# Altium integrated library 1554-MM.IntLib: 57 symbols
Pins are listed as number, name and electrical type; pins without a type are passive.

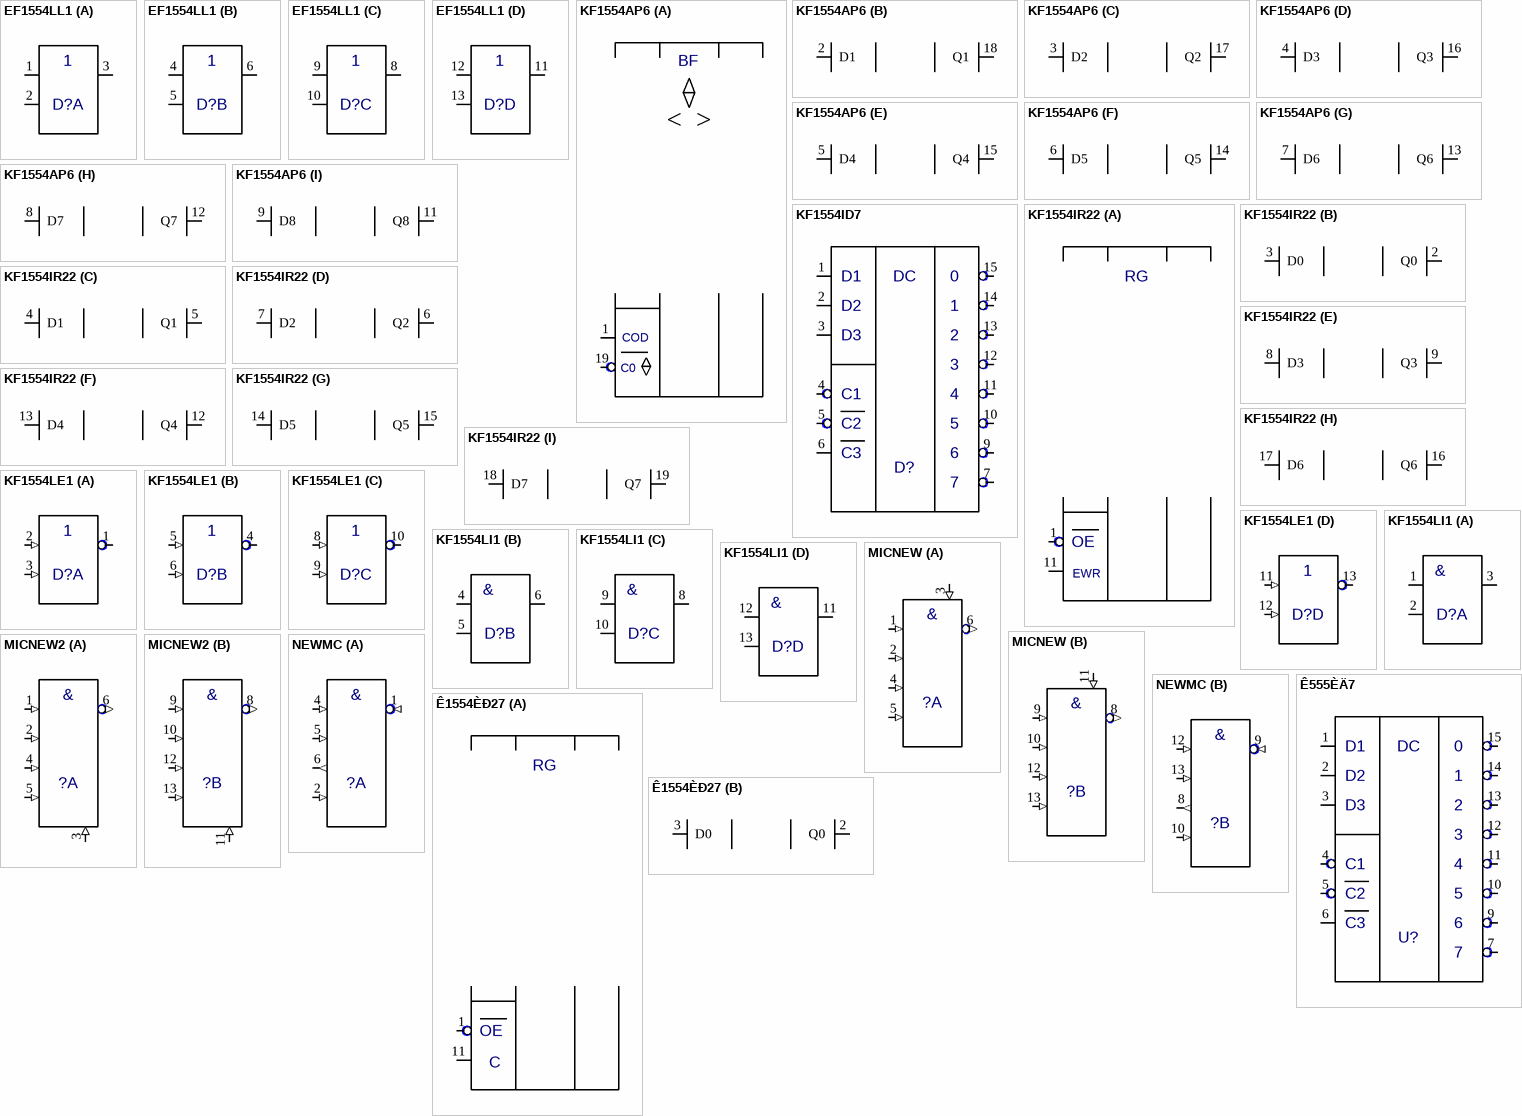
[diagram p0: symbols EF1554LL1 to Ê1554ÈÐ27]

## EF1554LL1
designator D?  (value not drawn)
Value: *
footprint SO14
pins on every part: 7 GND (power) hidden, 14 VCC (power) hidden
part A pins: 1 IN0, 2 IN1, 3 OUT
part B pins: 4 IN0, 5 IN1, 6 OUT
part C pins: 8 OUT, 9 IN0, 10 IN1
part D pins: 11 OUT, 12 IN0, 13 IN1

## KF1554AP6
designator D?  (value not drawn)
Value: *
footprint SOJ20
pins on every part: 10 GND (power) hidden, 20 VCC (power) hidden
part A pins: 1 DT/A0, 19 CS
part B pins: 2 D1, 18 Q1
part C pins: 3 D2, 17 Q2
part D pins: 4 D3, 16 Q3
part E pins: 5 D4, 15 Q4
part F pins: 6 D5, 14 Q5
part G pins: 7 D6, 13 Q6
part H pins: 8 D7, 12 Q7
part I pins: 9 D8, 11 Q8
part A text: BF; COD; C0

## KF1554ID7
designator D?  (value not drawn)
Value: *
footprint SO16
pins: 1 D0, 2 D1, 3 D2, 4 E1, 5 E2, 6 E3, 7 Q7, 8 GND (power) hidden, 9 Q6, 10 Q5, 11 Q4, 12 Q3, 13 Q2, 14 Q1, 15 Q0, 16 VCC (power) hidden
text: DC; 0; D3; C1; C2; C3

## KF1554IR22
designator D?  (value not drawn)
Value: *
footprint SOJ20
pins on every part: 10 GND (power) hidden, 20 VCC (power) hidden
part A pins: 1 OE, 11 LE
part B pins: 2 Q0, 3 D0
part C pins: 4 D1, 5 Q1
part D pins: 6 Q2, 7 D2
part E pins: 8 D3, 9 Q3
part F pins: 12 Q4, 13 D4
part G pins: 14 D5, 15 Q5
part H pins: 16 Q6, 17 D6
part I pins: 18 D7, 19 Q7
part A text: RG; EWR

## KF1554LE1
designator D?  (value not drawn)
Value: *
footprint SO14
pins on every part: 7 GND (power) hidden, 14 VCC (power) hidden
part A pins: 1 OUT, 2 IN0 (in), 3 IN1 (in)
part B pins: 4 OUT, 5 IN0 (in), 6 IN1 (in)
part C pins: 8 IN0 (in), 9 IN1 (in), 10 OUT
part D pins: 11 IN0 (in), 12 IN1 (in), 13 OUT

## KF1554LI1
designator D?  (value not drawn)
Value: *
footprint SO14
pins on every part: 7 GND (power) hidden, 14 VCC (power) hidden
part A pins: 1 IN0, 2 IN1, 3 OUT
part B pins: 4 IN0, 5 IN1, 6 OUT
part C pins: 8 OUT, 9 IN0, 10 IN1
part D pins: 11 OUT, 12 IN0, 13 IN1
part A text: &
part B text: &
part C text: &
part D text: &

## MICNEW
designator ?  (value not drawn)
Value: *
footprint DIP14
pins on every part: 7 GND (power) hidden, 14 VCC (power) hidden
part A pins: 1 IN0 (in), 2 IN1 (in), 3 IN6 (in), 4 IN3 (in), 5 IN4 (in), 6 OUT (out)
part B pins: 8 OUT (out), 9 IN0 (in), 10 IN1 (in), 11 IN6 (in), 12 IN3 (in), 13 IN4 (in)
part A text: &
part B text: &

## MICNEW2
designator ?  (value not drawn)
Value: *
footprint DIP14
pins on every part: 7 GND (power) hidden, 14 VCC (power) hidden
part A pins: 1 IN0 (in), 2 IN1 (in), 3 IN6 (in), 4 IN3 (in), 5 IN4 (in), 6 OUT (out)
part B pins: 8 OUT (out), 9 IN0 (in), 10 IN1 (in), 11 IN6 (in), 12 IN3 (in), 13 IN4 (in)
part A text: &
part B text: &

## NEWMC
designator ?  (value not drawn)
Value: *
footprint DIP14
pins on every part: 3 hidden, 7 GND (power) hidden, 11 hidden, 14 Vcc (power) hidden
part A pins: 1 IN0 (in), 2 IN1 (in), 4 IN3 (in), 5 IN4 (in), 6 OUT (out)
part B pins: 8 OUT (out), 9 IN0 (in), 10 IN1 (in), 12 IN3 (in), 13 IN4 (in)
part A text: &
part B text: &

## Ê555ÈÄ7
designator U?  (value not drawn)
Value: *
pins: 1 D0, 2 D1, 3 D2, 4 E1, 5 E2, 6 E3, 7 Q7, 9 Q6, 10 Q5, 11 Q4, 12 Q3, 13 Q2, 14 Q1, 15 Q0
text: DC; 0; D3; C1; C2; C3

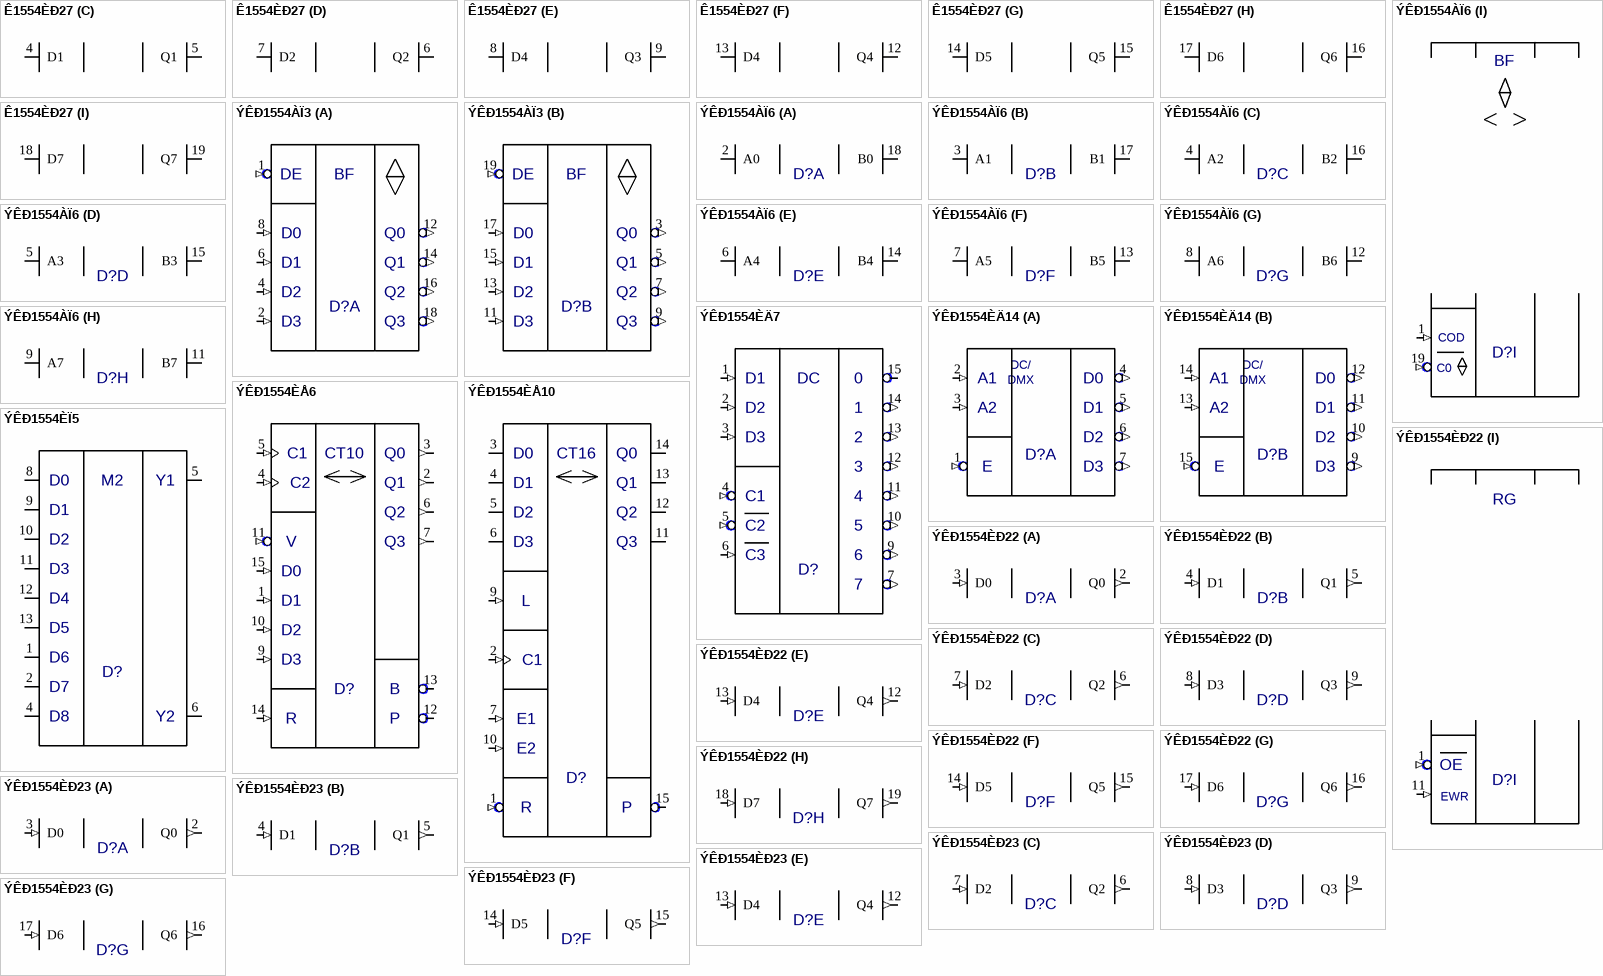
[diagram p1: symbols Ê1554ÈÐ27 to ÝÊÐ1554ÈÐ23]

## Ê1554ÈÐ27
designator D?  (value not drawn)
Value: *
footprint DIP20
pins on every part: 10 GND (power) hidden, 20 VCC (power) hidden
part A pins: 1 OE, 11 LE
part B pins: 2 Q0, 3 D0
part C pins: 4 D1, 5 Q1
part D pins: 6 Q2, 7 D2
part E pins: 8 D4, 9 Q3
part F pins: 12 Q4, 13 D4
part G pins: 14 D5, 15 Q5
part H pins: 16 Q6, 17 D6
part I pins: 18 D7, 19 Q7
part A text: RG; C

## ÝÊÐ1554ÀÏ3
designator D?  (value not drawn)
Value: *
footprint DIP20
pins on every part: 10 GND (power) hidden, 20 VCC (power) hidden
part A pins: 1 DE0 (in), 2 D3 (in), 4 D2 (in), 6 D1 (in), 8 D0 (in), 12 Q0 (out), 14 Q1 (out), 16 Q2 (out), 18 Q3 (out)
part B pins: 3 Q0 (out), 5 Q1 (out), 7 Q2 (out), 9 Q3 (out), 11 D3 (in), 13 D2 (in), 15 D1 (in), 17 D0 (in), 19 DE0 (in)
part A text: DE; BF
part B text: DE; BF

## ÝÊÐ1554ÀÏ6
designator D?  (value not drawn)
Value: *
footprint DIP20
pins on every part: 10 GND (power) hidden, 20 VCC (power) hidden
part A pins: 2 A0 (io), 18 B0 (io)
part B pins: 3 A1 (io), 17 B1 (io)
part C pins: 4 A2 (io), 16 B2 (io)
part D pins: 5 A3 (io), 15 B3 (io)
part E pins: 6 A4 (io), 14 B4 (io)
part F pins: 7 A5 (io), 13 B5 (io)
part G pins: 8 A6 (io), 12 B6 (io)
part H pins: 9 A7 (io), 11 B7 (io)
part I pins: 1 CDD (in), 19 CD0 (in)
part I text: BF; COD; C0

## ÝÊÐ1554ÈÄ7
designator D?  (value not drawn)
Value: *
footprint DIP16
pins: 1 (in), 2 (in), 3 (in), 4 E3 (in), 5 E2 (in), 6 E1 (in), 7 D0 (out), 8 GND (power) hidden, 9 D2 (out), 10 D3 (out), 11 D4 (out), 12 D5 (out), 13 D6 (out), 14 D7 (out), 15 D1 (power), 16 VCC (power) hidden
text: DC; 0; C1; C2; C3

## ÝÊÐ1554ÈÄ14
designator D?  (value not drawn)
Value: *
footprint DIP16
pins on every part: 8 GND (power) hidden, 16 VCC (power) hidden
part A pins: 1 E0 (in), 2 D1 (in), 3 D2 (in), 4 DO0 (out), 5 DO1 (out), 6 DO2 (out), 7 DO3 (out)
part B pins: 9 DO3 (out), 10 DO2 (out), 11 DO1 (out), 12 DO0 (out), 13 D2 (in), 14 D1 (in), 15 E0 (in)
part A text: DC/; A1; DMX; D0; A2; E; D3
part B text: DC/; A1; DMX; D0; A2; E; D3

## ÝÊÐ1554ÈÅ6
designator D?  (value not drawn)
Value: *
footprint DIP16
pins: 1 D1 (in), 2 Q1 (out), 3 Q0 (out), 4 C2 (in), 5 C1 (in), 6 Q2 (out), 7 Q3 (out), 8 GND (power) hidden, 9 D3 (in), 10 D2 (in), 11 V0 (in), 12 P (io), 13 B (io), 14 R0 (in), 15 D0 (in), 16 VCC (power) hidden
text: CT10; V; R

## ÝÊÐ1554ÈÅ10
designator D?  (value not drawn)
Value: *
footprint DIP16
pins: 1 R (in), 2 C1 (in), 3 D0 (io), 4 D1 (io), 5 D2 (io), 6 D3 (io), 7 E1 (in), 8 GND (power) hidden, 9 L (in), 10 E2 (in), 11 Q3 (io), 12 Q2 (io), 13 Q1 (io), 14 Q0 (io), 15 P (io), 16 VCC (power) hidden
text: CT16

## ÝÊÐ1554ÈÏ5
designator D?  (value not drawn)
Value: *
footprint DIP14
pins: 1 D6 (io), 2 D7 (io), 3 hidden, 4 D8 (io), 5 Y1 (io), 6 Y2 (io), 7 GND (power) hidden, 8 D0 (io), 9 D1 (io), 10 D2 (io), 11 D3 (io), 12 D4 (io), 13 D5 (io), 14 VCC (power) hidden
text: M2

## ÝÊÐ1554ÈÐ22
designator D?  (value not drawn)
Value: *
footprint DIP20
pins on every part: 10 GND (power) hidden, 20 VCC (power) hidden
part A pins: 2 Q0 (out), 3 D0 (in)
part B pins: 4 D1 (in), 5 Q1 (out)
part C pins: 6 Q2 (out), 7 D2 (in)
part D pins: 8 D3 (in), 9 Q3 (out)
part E pins: 12 Q4 (out), 13 D4 (in)
part F pins: 14 D5 (in), 15 Q5 (out)
part G pins: 16 Q6 (out), 17 D6 (in)
part H pins: 18 D7 (in), 19 Q7 (out)
part I pins: 1 OE (in), 11 EWR (in)
part I text: RG

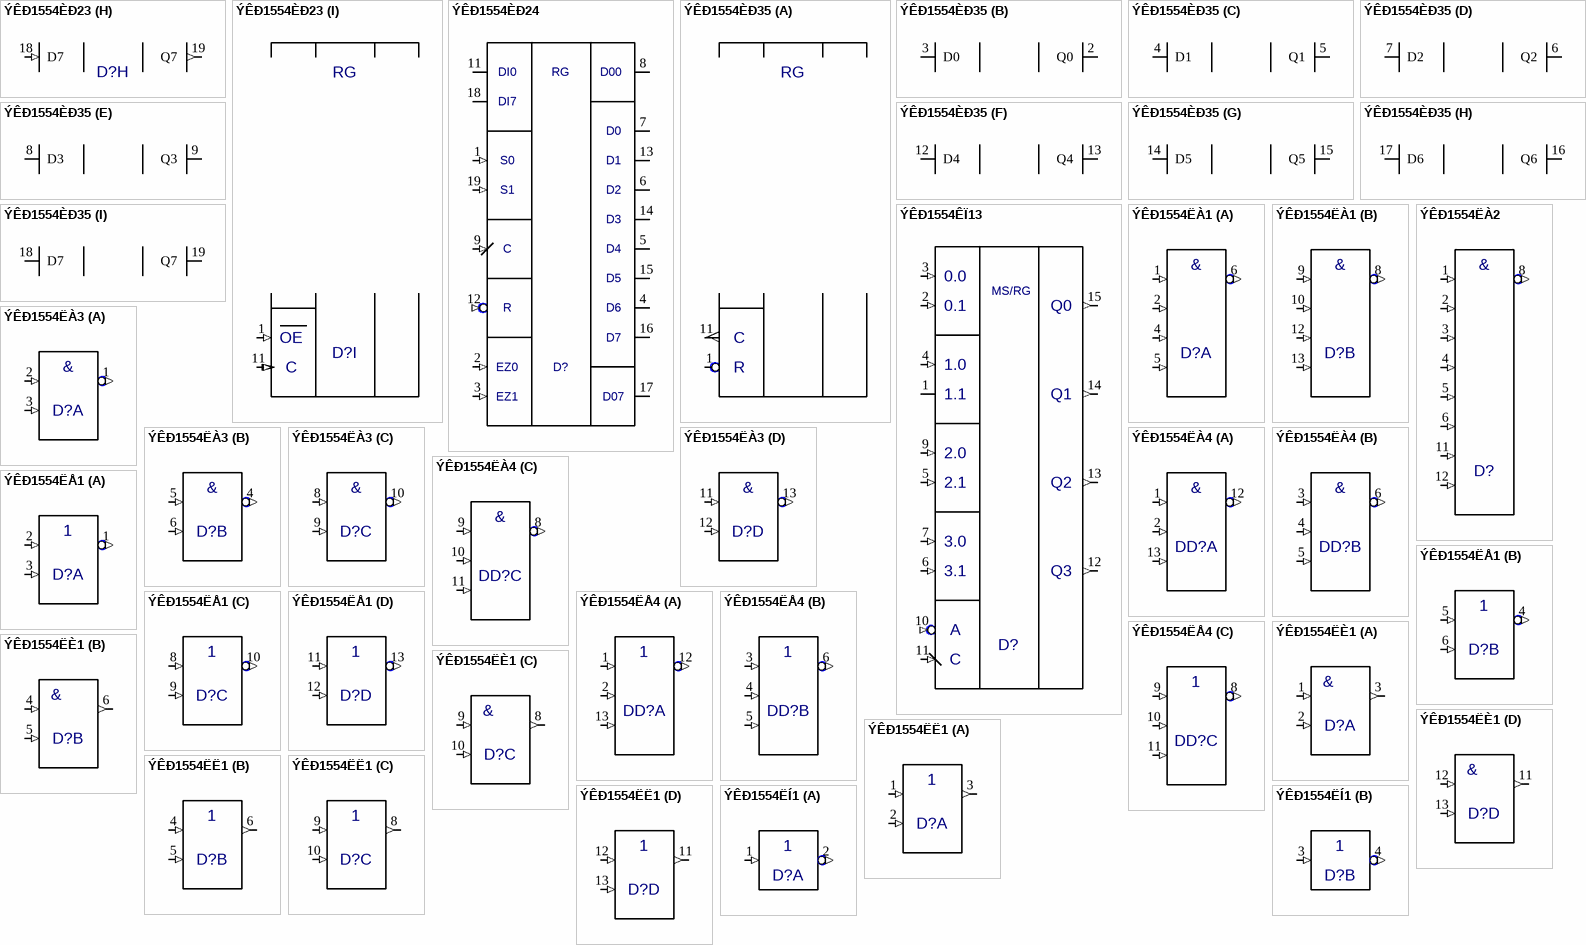
[diagram p2: symbols ÝÊÐ1554ÈÐ23 to ÝÊÐ1554ËÍ1]

## ÝÊÐ1554ÈÐ23
designator D?  (value not drawn)
Value: *
footprint DIP20
pins on every part: 10 GND (power) hidden, 20 VCC (power) hidden
part A pins: 2 Q0 (out), 3 D0 (in)
part B pins: 4 D1 (in), 5 Q1 (out)
part C pins: 6 Q2 (out), 7 D2 (in)
part D pins: 8 D3 (in), 9 Q3 (out)
part E pins: 12 Q4 (out), 13 D4 (in)
part F pins: 14 D5 (in), 15 Q5 (out)
part G pins: 16 Q6 (out), 17 D6 (in)
part H pins: 18 D7 (in), 19 Q7 (out)
part I pins: 1 OE (in), 11 LE (in)
part I text: RG; C

## ÝÊÐ1554ÈÐ24
designator D?  (value not drawn)
Value: *
footprint DIP20
pins: 1 S0 (in), 2 EZ0 (in), 3 EZ1 (in), 4 D6 (io), 5 D4 (io), 6 D2 (io), 7 D0 (io), 8 D0 (io), 9 C0 (in), 10 GND (power) hidden, 11 DI0 (io), 12 R (in), 13 D1 (io), 14 D3 (io), 15 D5 (io), 16 D7 (io), 17 D07 (io), 18 DI1 (io), 19 S1 (in), 20 VCC (power) hidden
text: RG; D00; DI7; C

## ÝÊÐ1554ÈÐ35
designator D?  (value not drawn)
Value: *
footprint DIP20
pins on every part: 10 GND (power) hidden, 20 VCC (power) hidden
part A pins: 1 R, 11 C
part B pins: 2 Q0, 3 D0
part C pins: 4 D1, 5 Q1
part D pins: 6 Q2, 7 D2
part E pins: 8 D3, 9 Q3
part F pins: 12 D4, 13 Q4
part G pins: 14 D5, 15 Q5
part H pins: 16 Q6, 17 D6
part I pins: 18 D7, 19 Q7
part A text: RG

## ÝÊÐ1554ÊÏ13
designator D?  (value not drawn)
Value: *
footprint DIP16
pins: 1 1.1, 2 0.1 (in), 3 0.0 (in), 4 1.0 (in), 5 2.1 (in), 6 3.1 (in), 7 3.0 (in), 8 GND (power) hidden, 9 2.0 (in), 10 A (in), 11 C (in), 12 Q3 (out), 13 Q2 (out), 14 Q1 (out), 15 Q0 (out), 16 VCC (power) hidden
text: MS/RG

## ÝÊÐ1554ËÀ1
designator D?  (value not drawn)
Value: *
footprint DIP14
pins on every part: 3 hidden, 7 GND (power) hidden, 11 hidden, 14 VCC (power) hidden
part A pins: 1 IN0 (in), 2 IN1 (in), 4 IN3 (in), 5 IN4 (in), 6 OUT (out)
part B pins: 8 OUT (out), 9 IN0 (in), 10 IN1 (in), 12 IN3 (in), 13 IN4 (in)
part A text: &
part B text: &

## ÝÊÐ1554ËÀ2
designator D?  (value not drawn)
Value: *
footprint DIP14
pins: 1 IN0 (in), 2 IN1 (in), 3 IN3 (in), 4 IN4 (in), 5 IN5 (in), 6 IN6 (in), 7 GND (power) hidden, 8 OUT (out), 9 hidden, 10 hidden, 11 IN7 (in), 12 IN8 (in), 13 hidden, 14 VCC (power) hidden
text: &

## ÝÊÐ1554ËÀ3
designator D?  (value not drawn)
Value: *
footprint DIP14
pins on every part: 7 GND (power) hidden, 14 VCC (power) hidden
part A pins: 1 OUT (out), 2 IN0 (in), 3 IN1 (in)
part B pins: 4 OUT (out), 5 IN0 (in), 6 IN1 (in)
part C pins: 8 IN0 (in), 9 IN1 (in), 10 OUT (out)
part D pins: 11 IN0 (in), 12 IN1 (in), 13 OUT (out)
part A text: &
part B text: &
part C text: &
part D text: &

## ÝÊÐ1554ËÀ4
designator DD?  (value not drawn)
Value: *
footprint DIP14
pins on every part: 7 GND (power) hidden, 14 VCC (power) hidden
part A pins: 1 IN0 (in), 2 IN1 (in), 12 OUT (out), 13 IN3 (in)
part B pins: 3 IN0 (in), 4 IN1 (in), 5 IN3 (in), 6 OUT (out)
part C pins: 8 OUT (out), 9 IN0 (in), 10 IN1 (in), 11 IN3 (in)
part A text: &
part B text: &
part C text: &

## ÝÊÐ1554ËÅ1
designator D?  (value not drawn)
Value: *
footprint DIP14
pins on every part: 7 GND (power) hidden, 14 VCC (power) hidden
part A pins: 1 OUT (out), 2 IN0 (in), 3 IN1 (in)
part B pins: 4 OUT (out), 5 IN0 (in), 6 IN1 (in)
part C pins: 8 IN0 (in), 9 IN1 (in), 10 OUT (out)
part D pins: 11 IN0 (in), 12 IN1 (in), 13 OUT (out)

## ÝÊÐ1554ËÅ4
designator DD?  (value not drawn)
Value: *
footprint DIP14
pins on every part: 7 GND (power) hidden, 14 VCC (power) hidden
part A pins: 1 IN0 (in), 2 IN1 (in), 12 OUT (out), 13 IN3 (in)
part B pins: 3 IN0 (in), 4 IN1 (in), 5 IN3 (in), 6 OUT (out)
part C pins: 8 OUT (out), 9 IN0 (in), 10 IN1 (in), 11 IN3 (in)

## ÝÊÐ1554ËÈ1
designator D?  (value not drawn)
Value: *
footprint DIP14
pins on every part: 7 GND (power) hidden, 14 VCC (power) hidden
part A pins: 1 IN0 (in), 2 IN1 (in), 3 OUT (out)
part B pins: 4 IN0 (in), 5 IN1 (in), 6 OUT (out)
part C pins: 8 OUT (out), 9 IN0 (in), 10 IN1 (in)
part D pins: 11 OUT (out), 12 IN0 (in), 13 IN1 (in)
part A text: &
part B text: &
part C text: &
part D text: &

## ÝÊÐ1554ËË1
designator D?  (value not drawn)
Value: *
footprint DIP14
pins on every part: 7 GND (power) hidden, 14 VCC (power) hidden
part A pins: 1 IN0 (in), 2 IN1 (in), 3 OUT (out)
part B pins: 4 IN0 (in), 5 IN1 (in), 6 OUT (out)
part C pins: 8 OUT (out), 9 IN0 (in), 10 IN1 (in)
part D pins: 11 OUT (out), 12 IN0 (in), 13 IN1 (in)

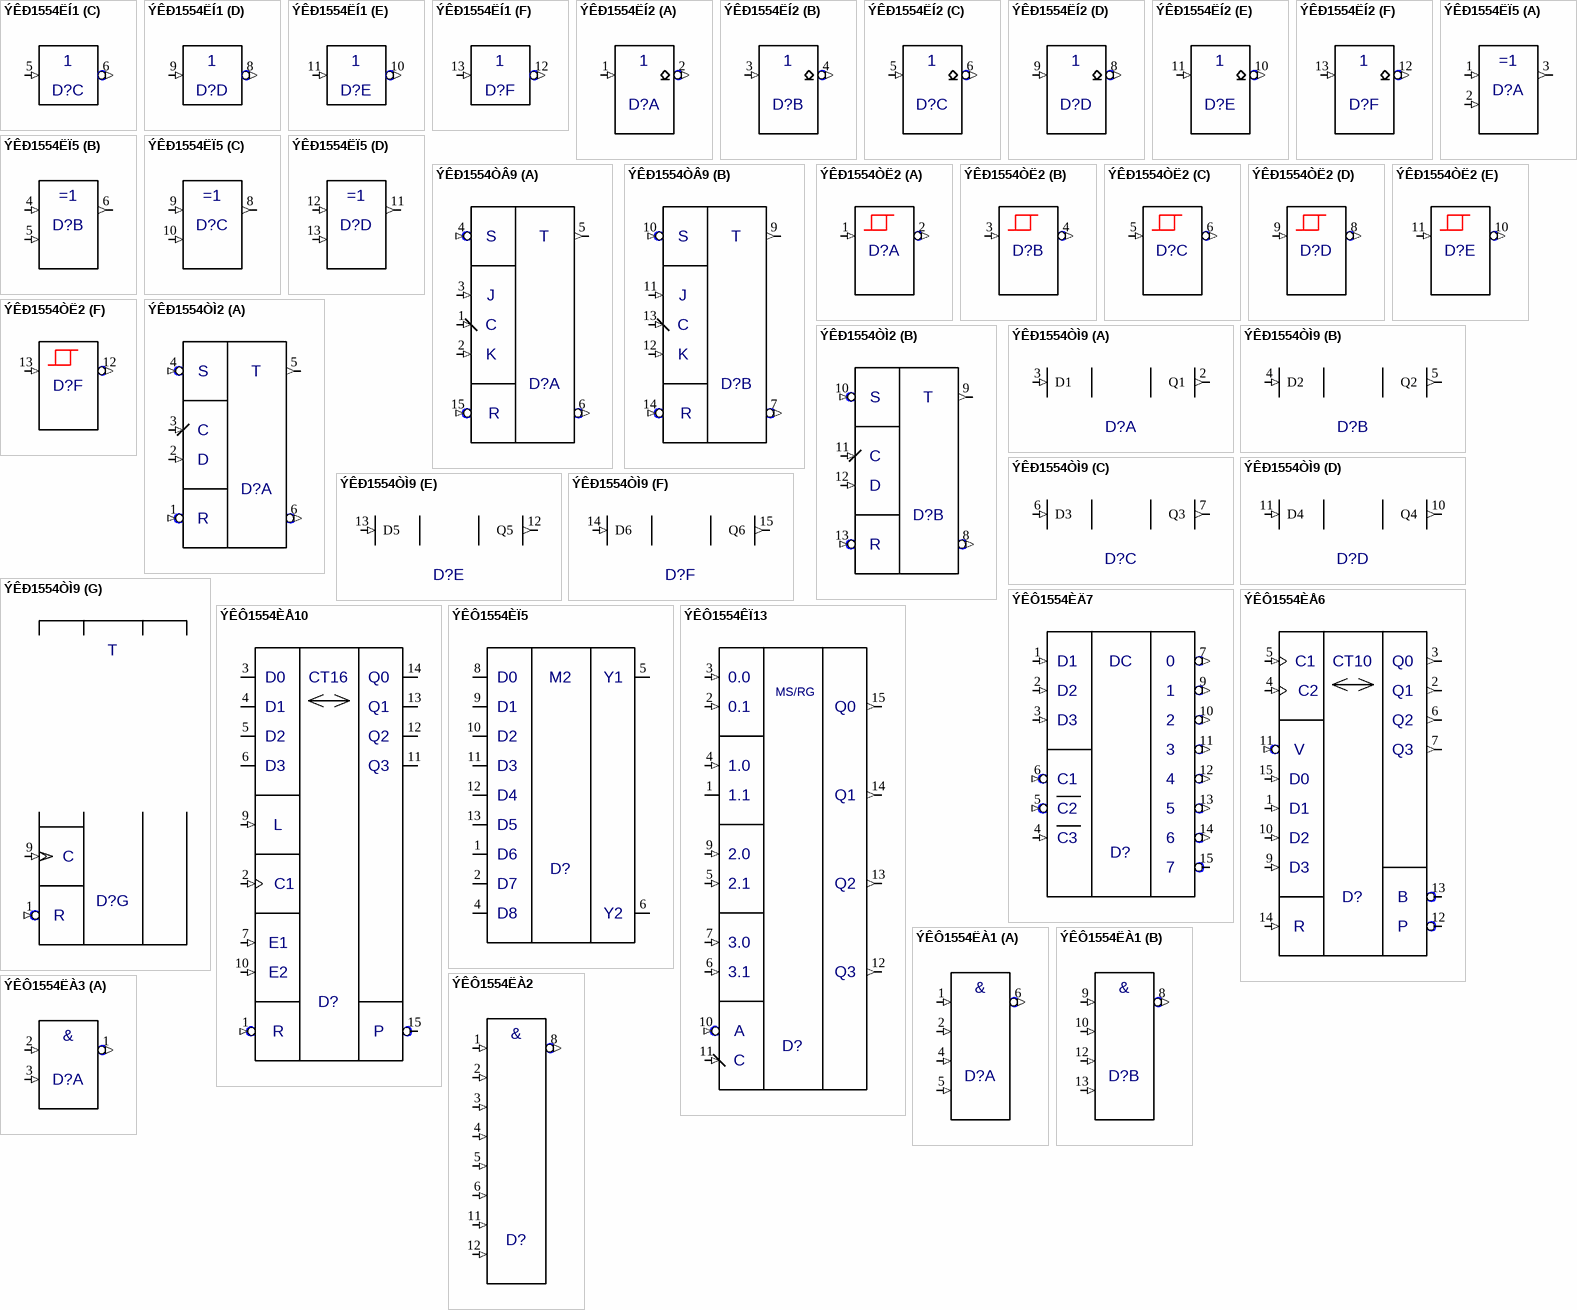
[diagram p3: symbols ÝÊÐ1554ËÍ1 to ÝÊÔ1554ËÀ3]

## ÝÊÐ1554ËÍ1
designator D?  (value not drawn)
Value: *
footprint DIP14
pins on every part: 7 GND (power) hidden, 14 VCC (power) hidden
part A pins: 1 IN0 (in), 2 OUT (out)
part B pins: 3 IN0 (in), 4 OUT (out)
part C pins: 5 IN0 (in), 6 OUT (out)
part D pins: 8 OUT (out), 9 IN0 (in)
part E pins: 10 OUT (out), 11 IN0 (in)
part F pins: 12 OUT (out), 13 IN0 (in)

## ÝÊÐ1554ËÍ2
designator D?  (value not drawn)
Value: *
footprint DIP14
pins on every part: 7 GND (power) hidden, 14 VCC (power) hidden
part A pins: 1 IN0 (in), 2 OUT (out)
part B pins: 3 IN0 (in), 4 OUT (out)
part C pins: 5 IN0 (in), 6 OUT (out)
part D pins: 8 OUT (out), 9 IN0 (in)
part E pins: 10 OUT (out), 11 IN0 (in)
part F pins: 12 OUT (out), 13 IN0 (in)

## ÝÊÐ1554ËÏ5
designator D?  (value not drawn)
Value: *
footprint DIP14
pins on every part: 7 GND (power) hidden, 14 VCC (power) hidden
part A pins: 1 IN0 (in), 2 IN1 (in), 3 OUT (out)
part B pins: 4 IN0 (in), 5 IN1 (in), 6 OUT (out)
part C pins: 8 OUT (out), 9 IN0 (in), 10 IN1 (in)
part D pins: 11 OUT (out), 12 IN0 (in), 13 IN1 (in)

## ÝÊÐ1554ÒÂ9
designator D?  (value not drawn)
Value: *
footprint DIP16
pins on every part: 8 GND (power) hidden, 16 VCC (power) hidden
part A pins: 1 A1 (in), 2 A2 (in), 3 A0 (in), 4 S (in), 5 Q0 (out), 6 Q1 (out), 15 R0 (in)
part B pins: 7 Q1 (out), 9 Q0 (out), 10 S (in), 11 A0 (in), 12 A2 (in), 13 A1 (in), 14 R0 (in)
part A text: T; J; C; K; R
part B text: T; J; C; K; R

## ÝÊÐ1554ÒË2
designator D?  (value not drawn)
Value: *
footprint DIP14
pins on every part: 7 GND (power) hidden, 14 VCC (power) hidden
part A pins: 1 IN0 (in), 2 OUT (out)
part B pins: 3 IN0 (in), 4 OUT (out)
part C pins: 5 IN0 (in), 6 OUT (out)
part D pins: 8 OUT (out), 9 IN0 (in)
part E pins: 10 OUT (out), 11 IN0 (in)
part F pins: 12 OUT (out), 13 IN0 (in)

## ÝÊÐ1554ÒÌ2
designator D?  (value not drawn)
Value: *
footprint DIP14
pins on every part: 7 GND (power) hidden, 14 VCC (power) hidden
part A pins: 1 R0 (in), 2 A1 (in), 3 A0 (in), 4 S (in), 5 Q0 (out), 6 Q1 (out)
part B pins: 8 Q1 (out), 9 Q0 (out), 10 S (in), 11 A0 (in), 12 A1 (in), 13 R0 (in)
part A text: T; C; D; R
part B text: T; C; D; R

## ÝÊÐ1554ÒÌ9
designator D?  (value not drawn)
Value: *
footprint DIP16
pins on every part: 8 GND (power) hidden, 16 VCC (power) hidden
part A pins: 2 Q1 (out), 3 D1 (in)
part B pins: 4 D2 (in), 5 Q2 (out)
part C pins: 6 D3 (in), 7 Q3 (out)
part D pins: 10 Q4 (out), 11 D4 (in)
part E pins: 12 Q5 (out), 13 D5 (in)
part F pins: 14 D6 (in), 15 Q6 (out)
part G pins: 1 R (in), 9 C (in)
part G text: T

## ÝÊÔ1554ÈÄ7
designator D?  (value not drawn)
Value: *
footprint 4307-16A
pins: 1 (in), 2 (in), 3 (in), 4 E1 (in), 5 E2 (in), 6 E3 (in), 7 D7 (out), 8 GND (power) hidden, 9 D6 (out), 10 D5 (out), 11 D4 (out), 12 D3 (out), 13 D2 (out), 14 D1 (out), 15 D0 (power), 16 VCC (out) hidden
text: DC; 0; C1; C2; C3

## ÝÊÔ1554ÈÅ6
designator D?  (value not drawn)
Value: *
footprint 4307-16A
pins: 1 D1 (in), 2 Q1 (out), 3 Q0 (out), 4 C2 (in), 5 C1 (in), 6 Q2 (out), 7 Q3 (out), 8 GND (power) hidden, 9 D3 (in), 10 D2 (in), 11 V0 (in), 12 P (io), 13 B (io), 14 R0 (in), 15 D0 (in), 16 VCC (power) hidden
text: CT10; V; R

## ÝÊÔ1554ÈÅ10
designator D?  (value not drawn)
Value: *
footprint 4307-16A
pins: 1 R (in), 2 C1 (in), 3 D0 (io), 4 D1 (io), 5 D2 (io), 6 D3 (io), 7 E1 (in), 8 GND (power) hidden, 9 L (in), 10 E2 (in), 11 Q3 (io), 12 Q2 (io), 13 Q1 (io), 14 Q0 (io), 15 P (io), 16 VCC (power) hidden
text: CT16

## ÝÊÔ1554ÈÏ5
designator D?  (value not drawn)
Value: *
footprint 4306-14A
pins: 1 D6 (io), 2 D7 (io), 3 hidden, 4 D8 (io), 5 Y1 (io), 6 Y2 (io), 7 GND (power) hidden, 8 D0 (io), 9 D1 (io), 10 D2 (io), 11 D3 (io), 12 D4 (io), 13 D5 (io), 14 VCC (power) hidden
text: M2

## ÝÊÔ1554ÊÏ13
designator D?  (value not drawn)
Value: *
footprint 4307-16A
pins: 1 1.1, 2 0.1 (in), 3 0.0 (in), 4 1.0 (in), 5 2.1 (in), 6 3.1 (in), 7 3.0 (in), 8 GND (power) hidden, 9 2.0 (in), 10 A (in), 11 C (in), 12 Q3 (out), 13 Q2 (out), 14 Q1 (out), 15 Q0 (out), 16 VCC (power) hidden
text: MS/RG

## ÝÊÔ1554ËÀ1
designator D?  (value not drawn)
Value: *
footprint 4306-14A
pins on every part: 3 hidden, 7 GND (power) hidden, 11 hidden, 14 VCC (power) hidden
part A pins: 1 IN0 (in), 2 IN1 (in), 4 IN3 (in), 5 IN4 (in), 6 OUT (out)
part B pins: 8 OUT (out), 9 IN0 (in), 10 IN1 (in), 12 IN3 (in), 13 IN4 (in)
part A text: &
part B text: &

## ÝÊÔ1554ËÀ2
designator D?  (value not drawn)
Value: *
footprint 4306-14A
pins: 1 IN0 (in), 2 IN1 (in), 3 IN3 (in), 4 IN4 (in), 5 IN5 (in), 6 IN6 (in), 7 GND (power) hidden, 8 OUT (out), 9 hidden, 10 hidden, 11 IN7 (in), 12 IN8 (in), 13 hidden, 14 VCC (power) hidden
text: &

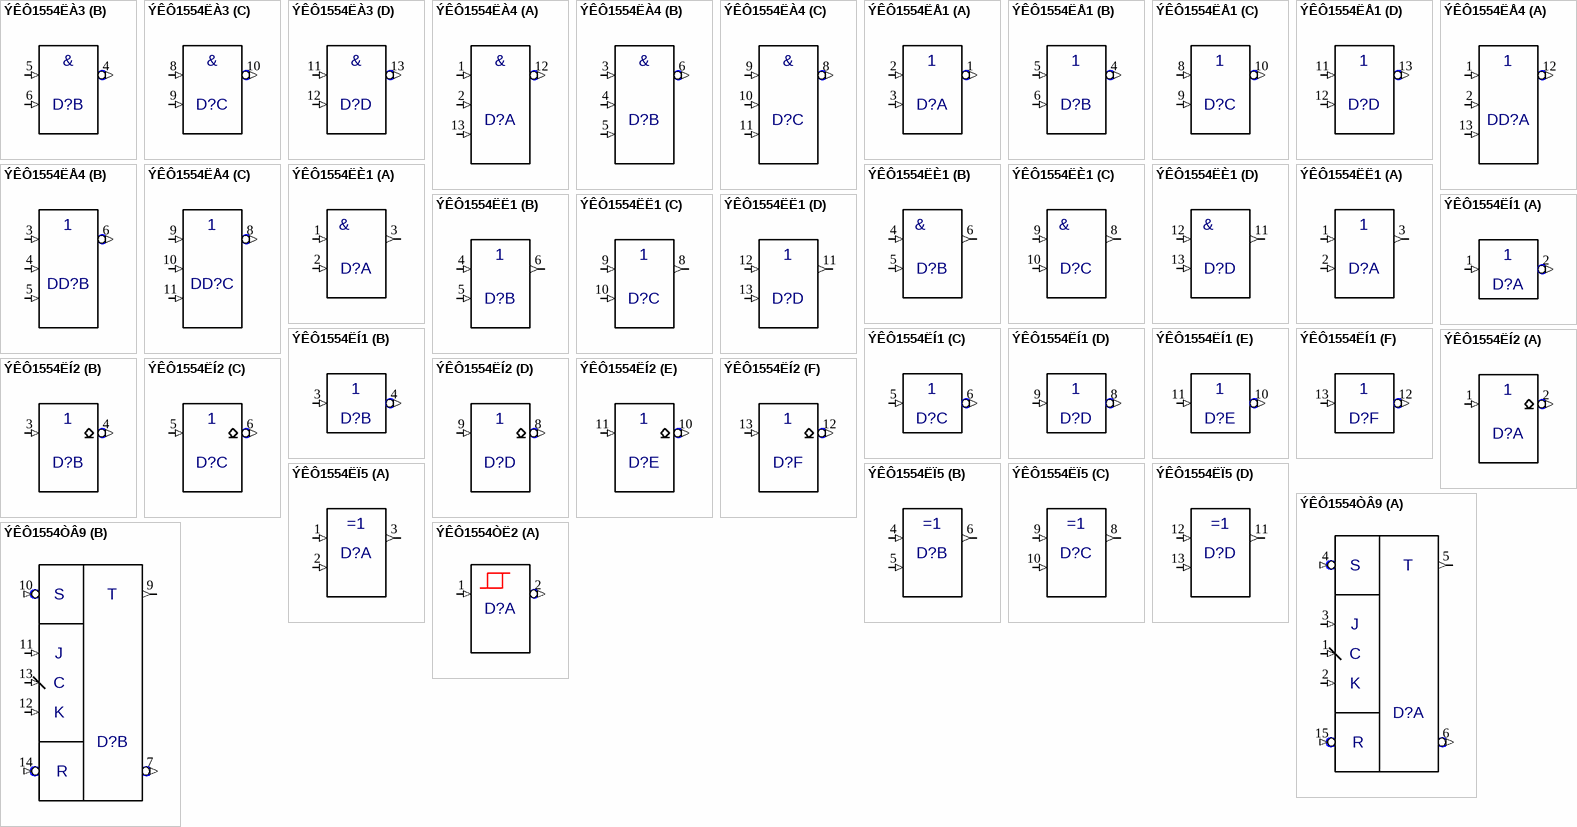
[diagram p4: symbols ÝÊÔ1554ËÀ3 to ÝÊÔ1554ÒË2]

## ÝÊÔ1554ËÀ3
designator D?  (value not drawn)
Value: *
footprint 4306-14A
pins on every part: 7 GND (power) hidden, 14 VCC (power) hidden
part A pins: 1 OUT (out), 2 IN0 (in), 3 IN1 (in)
part B pins: 4 OUT (out), 5 IN0 (in), 6 IN1 (in)
part C pins: 8 IN0 (in), 9 IN1 (in), 10 OUT (out)
part D pins: 11 IN0 (in), 12 IN1 (in), 13 OUT (out)
part A text: &
part B text: &
part C text: &
part D text: &

## ÝÊÔ1554ËÀ4
designator D?  (value not drawn)
Value: *
footprint 4306-14A
pins on every part: 7 GND (power) hidden, 14 VCC (power) hidden
part A pins: 1 IN0 (in), 2 IN1 (in), 12 OUT (out), 13 IN3 (in)
part B pins: 3 IN0 (in), 4 IN1 (in), 5 IN3 (in), 6 OUT (out)
part C pins: 8 OUT (out), 9 IN0 (in), 10 IN1 (in), 11 IN3 (in)
part A text: &
part B text: &
part C text: &

## ÝÊÔ1554ËÅ1
designator D?  (value not drawn)
Value: *
footprint 4306-14A
pins on every part: 7 GND (power) hidden, 14 VCC (power) hidden
part A pins: 1 OUT (out), 2 IN0 (in), 3 IN1 (in)
part B pins: 4 OUT (out), 5 IN0 (in), 6 IN1 (in)
part C pins: 8 IN0 (in), 9 IN1 (in), 10 OUT (out)
part D pins: 11 IN0 (in), 12 IN1 (in), 13 OUT (out)

## ÝÊÔ1554ËÅ4
designator DD?  (value not drawn)
Value: *
footprint 4306-14A
pins on every part: 7 GND (power) hidden, 14 VCC (power) hidden
part A pins: 1 IN0 (in), 2 IN1 (in), 12 OUT (out), 13 IN3 (in)
part B pins: 3 IN0 (in), 4 IN1 (in), 5 IN3 (in), 6 OUT (out)
part C pins: 8 OUT (out), 9 IN0 (in), 10 IN1 (in), 11 IN3 (in)

## ÝÊÔ1554ËÈ1
designator D?  (value not drawn)
Value: *
footprint 4306-14A
pins on every part: 7 GND (power) hidden, 14 VCC (power) hidden
part A pins: 1 IN0 (in), 2 IN1 (in), 3 OUT (out)
part B pins: 4 IN0 (in), 5 IN1 (in), 6 OUT (out)
part C pins: 8 OUT (out), 9 IN0 (in), 10 IN1 (in)
part D pins: 11 OUT (out), 12 IN0 (in), 13 IN1 (in)
part A text: &
part B text: &
part C text: &
part D text: &

## ÝÊÔ1554ËË1
designator D?  (value not drawn)
Value: *
footprint 4306-14A
pins on every part: 7 GND (power) hidden, 14 VCC (power) hidden
part A pins: 1 IN0 (in), 2 IN1 (in), 3 OUT (out)
part B pins: 4 IN0 (in), 5 IN1 (in), 6 OUT (out)
part C pins: 8 OUT (out), 9 IN0 (in), 10 IN1 (in)
part D pins: 11 OUT (out), 12 IN0 (in), 13 IN1 (in)

## ÝÊÔ1554ËÍ1
designator D?  (value not drawn)
Value: *
footprint 4306-14A
pins on every part: 7 GND (power) hidden, 14 VCC (power) hidden
part A pins: 1 IN0 (in), 2 OUT (out)
part B pins: 3 IN0 (in), 4 OUT (out)
part C pins: 5 IN0 (in), 6 OUT (out)
part D pins: 8 OUT (out), 9 IN0 (in)
part E pins: 10 OUT (out), 11 IN0 (in)
part F pins: 12 OUT (out), 13 IN0 (in)

## ÝÊÔ1554ËÍ2
designator D?  (value not drawn)
Value: *
footprint 4306-14A
pins on every part: 7 GND (power) hidden, 14 VCC (power) hidden
part A pins: 1 IN0 (in), 2 OUT (out)
part B pins: 3 IN0 (in), 4 OUT (out)
part C pins: 5 IN0 (in), 6 OUT (out)
part D pins: 8 OUT (out), 9 IN0 (in)
part E pins: 10 OUT (out), 11 IN0 (in)
part F pins: 12 OUT (out), 13 IN0 (in)

## ÝÊÔ1554ËÏ5
designator D?  (value not drawn)
Value: *
footprint 4306-14A
pins on every part: 7 GND (power) hidden, 14 VCC (power) hidden
part A pins: 1 IN0 (in), 2 IN1 (in), 3 OUT (out)
part B pins: 4 IN0 (in), 5 IN1 (in), 6 OUT (out)
part C pins: 8 OUT (out), 9 IN0 (in), 10 IN1 (in)
part D pins: 11 OUT (out), 12 IN0 (in), 13 IN1 (in)

## ÝÊÔ1554ÒÂ9
designator D?  (value not drawn)
Value: *
footprint 4307-16A
pins on every part: 8 GND (power) hidden, 16 VCC (power) hidden
part A pins: 1 A1 (in), 2 A2 (in), 3 A0 (in), 4 S (in), 5 Q0 (out), 6 Q1 (out), 15 R0 (in)
part B pins: 7 Q1 (out), 9 Q0 (out), 10 S (in), 11 A0 (in), 12 A2 (in), 13 A1 (in), 14 R0 (in)
part A text: T; J; C; K; R
part B text: T; J; C; K; R

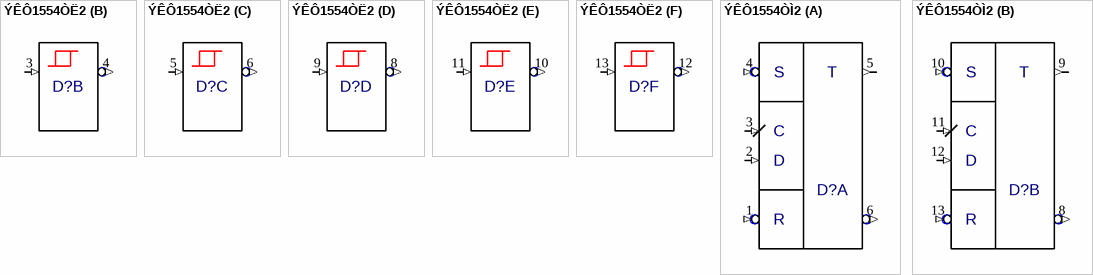
[diagram p5: symbols ÝÊÔ1554ÒË2 to ÝÊÔ1554ÒÌ2]

## ÝÊÔ1554ÒË2
designator D?  (value not drawn)
Value: *
footprint 4306-14A
pins on every part: 7 GND (power) hidden, 14 VCC (power) hidden
part A pins: 1 IN0 (in), 2 OUT (out)
part B pins: 3 IN0 (in), 4 OUT (out)
part C pins: 5 IN0 (in), 6 OUT (out)
part D pins: 8 OUT (out), 9 IN0 (in)
part E pins: 10 OUT (out), 11 IN0 (in)
part F pins: 12 OUT (out), 13 IN0 (in)

## ÝÊÔ1554ÒÌ2
designator D?  (value not drawn)
Value: *
footprint 4306-14A
pins on every part: 7 GND (power) hidden, 14 VCC (power) hidden
part A pins: 1 R0 (in), 2 A1 (in), 3 A0 (in), 4 S (in), 5 Q0 (out), 6 Q1 (out)
part B pins: 8 Q1 (out), 9 Q0 (out), 10 S (in), 11 A0 (in), 12 A1 (in), 13 R0 (in)
part A text: T; C; D; R
part B text: T; C; D; R